# EAGLE library part 55917-08 (library con-molex-2)
DIP connector 2mm 8 way
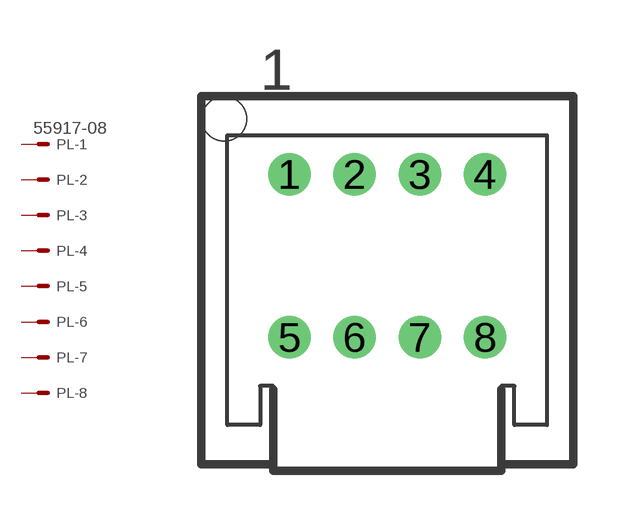
[diagram p10: symbol with the pads of 55917-08; footprint 55917-08]

Designator prefix PL; gates -1=MV -2=M -3=M -4=M -5=M -6=M -7=M -8=M

## 55917-08  [55917-08]
1  -1:S  pas
2  -2:S  pas
3  -3:S  pas
4  -4:S  pas
5  -5:S  pas
6  -6:S  pas
7  -7:S  pas
8  -8:S  pas

## Footprint 55917-08 (pad centres in mm)
DIP connector 2mm 8 way
drill 0.8: 1 -3,2.5; 2 -1,2.5; 3 1,2.5; 4 3,2.5; 5 -3,-2.5; 6 -1,-2.5; 7 1,-2.5; 8 3,-2.5
hole 1.35 at -5,4.2